# EAGLE library part DSP1A-L2 (library Panasonic Relay)
DS-P - 1 Form A - 2 coil latching version Data sheet <https://www.panasonic-electric-works.com/eu/download.htm?id=55277> Parameters Max. switching voltage: 125 V DC, 250 V AC Max. switching current: 5 A Operational function: Single side stable, 1 coil latching, 2 coil latching Contact arrangement: 1 NO / 1 NO 1 NC / 2 NO Applications Office and industrial electronic devices Terminal devices of information processing equipment, such as printer, data recorder Office equipment (copier, facsimile) Measuring instruments NC machines, temperature controllers and programmable logic controllers Options Also available as single side stable and 1 coil latching version.
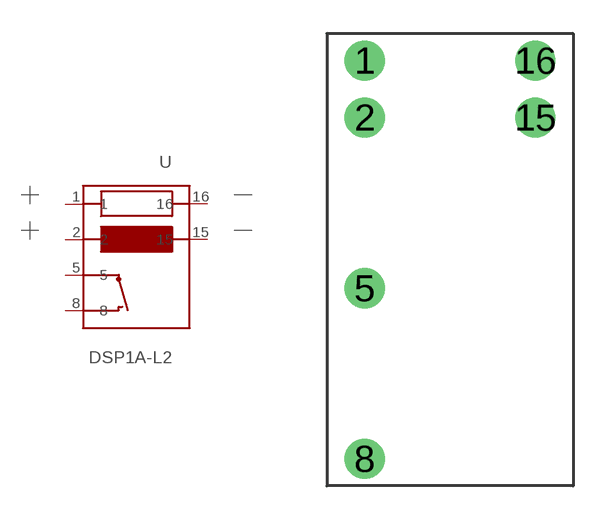
[diagram p15: symbol with the pads of DS-P_1_FORM_A_2CLT; footprint DS-P_1_FORM_A_2CLT]

Designator prefix -

## DSP1A-L2-DC12V (U_COIL: 12V DC), DSP1A-L2-DC24V (U_COIL: 24V DC), DSP1A-L2-DC3V (U_COIL: 3V DC), DSP1A-L2-DC5V (U_COIL: 5V DC), DSP1A-L2-DC6V (U_COIL: 6V DC), DSP1A-L2-DC9V (U_COIL: 9V DC)  [DS-P_1_FORM_A_2CLT]
1  1
2  2
5  5
8  8
15  15
16  16

## Footprint DS-P_1_FORM_A_2CLT (pad centres in mm)
drill 1.2: 1 -3.81,8.89; 2 -3.81,6.35; 5 -3.81,-1.27; 8 -3.81,-8.89; 15 3.81,6.35; 16 3.81,8.89